# EAGLE library part MFLD (library Interpoint)
Isolated DC-DC converter (dual output)
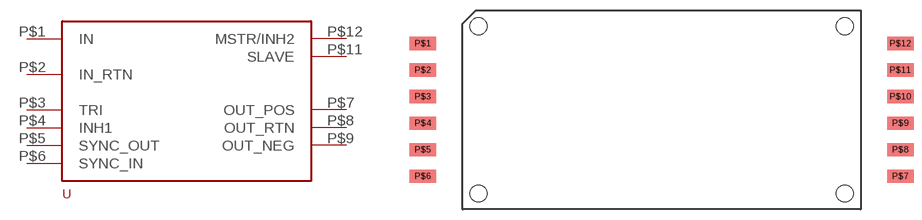
[diagram p0: symbol with the pads of MFL; footprint MFL]

Designator prefix -

## MFLD-2805 (PN: MFL2805D), MFLD-2812 (PN: MFL2812D), MFLD-2815 (PN: MFL2815D)  [MFL]
P$1  IN
P$2  IN_RTN
P$3  TRI
P$4  INH1
P$5  SYNC_OUT
P$6  SYNC_IN
P$7  OUT_POS
P$8  OUT_RTN
P$9  OUT_NEG
P$11  SLAVE
P$12  MSTR/INH2

## Footprint MFL (pad centres in mm)
smd 5.08 x 2.54: P$1 -45.72,12.7; P$2 -45.72,7.62; P$3 -45.72,2.54; P$4 -45.72,-2.54; P$5 -45.72,-7.62; P$6 -45.72,-12.7; P$7 45.72,-12.7; P$8 45.72,-7.62; P$9 45.72,-2.54; P$10 45.72,2.54; P$11 45.72,7.62; P$12 45.72,12.7
hole 3.2 at -35.052,16.002
hole 3.2 at -35.052,-16.002
hole 3.2 at 35.052,-16.002
hole 3.2 at 35.052,16.002